# Altium footprint library CQFP_Sq_63P_Ctr_L.PcbLib: 5 footprints
Each footprint in its own frame and in the unit in brackets; x right, y up, seen from the top. Pads: shape width x height; smd on the part's side, far side on the other; paste and mask are expansions set on the pad; w line width, h text height; cw(c..) or ccw(c..) is an arc to the next point about the centre after c.
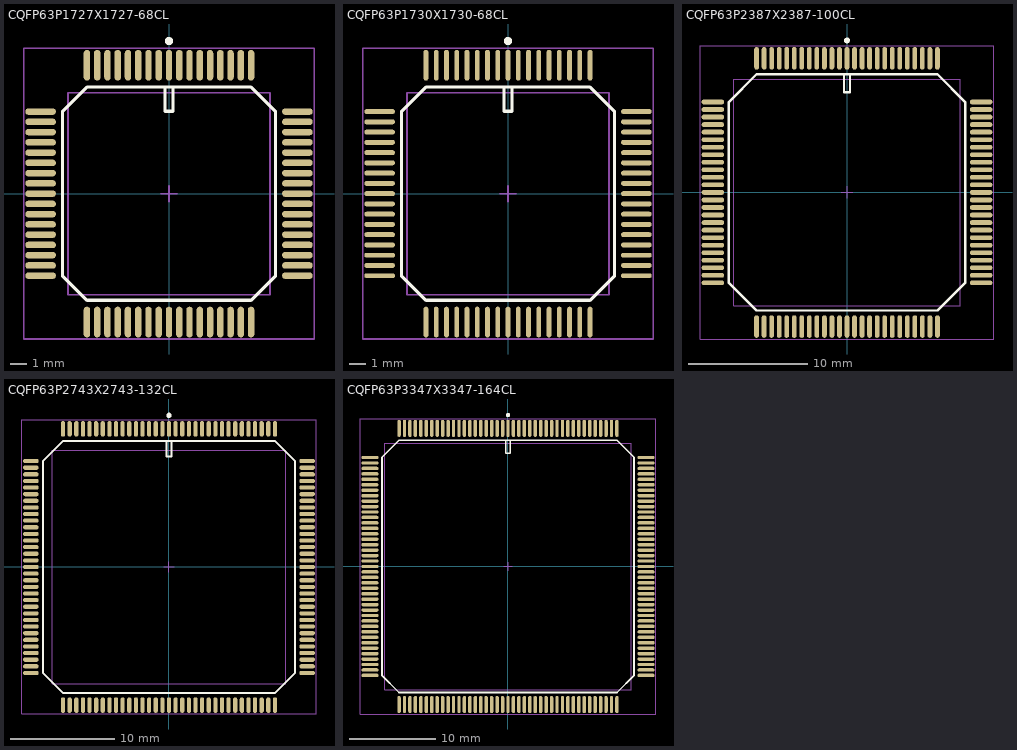
[diagram p0: the footprints below, top view; thin cyan lines are the x and y axes]

## CQFP63P1727X1727-68CL [mm] "68-Pin Ceramic Quad Flat Pack 0.635 mm Pitch"
height 3.9
pads (68):
  oval 0.4x1.9 smd: 1(0,7.95) 2(-0.635,7.95) 3(-1.27,7.95) 4(-1.905,7.95) 5(-2.54,7.95) 6(-3.175,7.95) 7(-3.81,7.95) 8(-4.445,7.95) 9(-5.08,7.95) 27(-5.08,-7.95) 28(-4.445,-7.95) 29(-3.81,-7.95) 30(-3.175,-7.95) 31(-2.54,-7.95) 32(-1.905,-7.95) 33(-1.27,-7.95) 34(-0.635,-7.95) 35(0,-7.95) 36(0.635,-7.95) 37(1.27,-7.95) 38(1.905,-7.95) 39(2.54,-7.95) 40(3.175,-7.95) 41(3.81,-7.95) 42(4.445,-7.95) 43(5.08,-7.95) 61(5.08,7.95) 62(4.445,7.95) 63(3.81,7.95) 64(3.175,7.95) 65(2.54,7.95) 66(1.905,7.95) 67(1.27,7.95) 68(0.635,7.95)
  oval 1.9x0.4 smd: 10(-7.95,5.08) 11(-7.95,4.445) 12(-7.95,3.81) 13(-7.95,3.175) 14(-7.95,2.54) 15(-7.95,1.905) 16(-7.95,1.27) 17(-7.95,0.635) 18(-7.95,0) 19(-7.95,-0.635) 20(-7.95,-1.27) 21(-7.95,-1.905) 22(-7.95,-2.54) 23(-7.95,-3.175) 24(-7.95,-3.81) 25(-7.95,-4.445) 26(-7.95,-5.08) 44(7.95,-5.08) 45(7.95,-4.445) 46(7.95,-3.81) 47(7.95,-3.175) 48(7.95,-2.54) 49(7.95,-1.905) 50(7.95,-1.27) 51(7.95,-0.635) 52(7.95,0) 53(7.95,0.635) 54(7.95,1.27) 55(7.95,1.905) 56(7.95,2.54) 57(7.95,3.175) 58(7.95,3.81) 59(7.95,4.445) 60(7.95,5.08)
Top Overlay:
  circle w0.25: c0,9.45 r0.125
  lines w0.2: -0.25,6.6 -0.25,5.1 0.25,5.1 0.25,6.6 ; -6.6,-5.08 -6.6,5.08 -5.08,6.6 5.08,6.6 6.6,5.08 6.6,-5.08 5.08,-6.6 -5.08,-6.6 -6.6,-5.08
Mechanical 13:
  lines w0.1: -6.255,-6.255 -6.255,6.255 6.255,6.255 6.255,-6.255 -6.255,-6.255
Mechanical 15:
  lines w0.1: -0.5,0 0.5,0 ; 0,-0.5 0,0.5 ; -9,-9 -9,9 9,9 9,-9 -9,-9
3D body: height 3.9, standoff 0, extent -6.255,-6.255 6.255,6.255

## CQFP63P1730X1730-68CL [mm] "68-Pin Ceramic Quad Flat Pack 0.635 mm Pitch"
height 4
pads (68):
  oval 0.3x1.9 smd: 1(0,7.95) 2(-0.635,7.95) 3(-1.27,7.95) 4(-1.905,7.95) 5(-2.54,7.95) 6(-3.175,7.95) 7(-3.81,7.95) 8(-4.445,7.95) 9(-5.08,7.95) 27(-5.08,-7.95) 28(-4.445,-7.95) 29(-3.81,-7.95) 30(-3.175,-7.95) 31(-2.54,-7.95) 32(-1.905,-7.95) 33(-1.27,-7.95) 34(-0.635,-7.95) 35(0,-7.95) 36(0.635,-7.95) 37(1.27,-7.95) 38(1.905,-7.95) 39(2.54,-7.95) 40(3.175,-7.95) 41(3.81,-7.95) 42(4.445,-7.95) 43(5.08,-7.95) 61(5.08,7.95) 62(4.445,7.95) 63(3.81,7.95) 64(3.175,7.95) 65(2.54,7.95) 66(1.905,7.95) 67(1.27,7.95) 68(0.635,7.95)
  oval 1.9x0.3 smd: 10(-7.95,5.08) 11(-7.95,4.445) 12(-7.95,3.81) 13(-7.95,3.175) 14(-7.95,2.54) 15(-7.95,1.905) 16(-7.95,1.27) 17(-7.95,0.635) 18(-7.95,0) 19(-7.95,-0.635) 20(-7.95,-1.27) 21(-7.95,-1.905) 22(-7.95,-2.54) 23(-7.95,-3.175) 24(-7.95,-3.81) 25(-7.95,-4.445) 26(-7.95,-5.08) 44(7.95,-5.08) 45(7.95,-4.445) 46(7.95,-3.81) 47(7.95,-3.175) 48(7.95,-2.54) 49(7.95,-1.905) 50(7.95,-1.27) 51(7.95,-0.635) 52(7.95,0) 53(7.95,0.635) 54(7.95,1.27) 55(7.95,1.905) 56(7.95,2.54) 57(7.95,3.175) 58(7.95,3.81) 59(7.95,4.445) 60(7.95,5.08)
Top Overlay:
  circle w0.25: c0,9.45 r0.125
  lines w0.2: -0.25,6.6 -0.25,5.1 0.25,5.1 0.25,6.6 ; -6.6,-5.08 -6.6,5.08 -5.08,6.6 5.08,6.6 6.6,5.08 6.6,-5.08 5.08,-6.6 -5.08,-6.6 -6.6,-5.08
Mechanical 13:
  lines w0.1: -6.255,-6.255 -6.255,6.255 6.255,6.255 6.255,-6.255 -6.255,-6.255
Mechanical 15:
  lines w0.1: -0.5,0 0.5,0 ; 0,-0.5 0,0.5 ; -9,-9 -9,9 9,9 9,-9 -9,-9
3D body: height 4, standoff 0, extent -6.255,-6.255 6.255,6.255

## CQFP63P2387X2387-100CL [mm] "100-Pin Ceramic Brazed Quad Flat Pack (CB100)"
height 3.5
pads (100):
  oval 0.4x1.9 smd: 1(0,11.3) 2(-0.635,11.3) 3(-1.27,11.3) 4(-1.905,11.3) 5(-2.54,11.3) 6(-3.175,11.3) 7(-3.81,11.3) 8(-4.445,11.3) 9(-5.08,11.3) 10(-5.715,11.3) 11(-6.35,11.3) 12(-6.985,11.3) 13(-7.62,11.3) 39(-7.62,-11.3) 40(-6.985,-11.3) 41(-6.35,-11.3) 42(-5.715,-11.3) 43(-5.08,-11.3) 44(-4.445,-11.3) 45(-3.81,-11.3) 46(-3.175,-11.3) 47(-2.54,-11.3) 48(-1.905,-11.3) 49(-1.27,-11.3) 50(-0.635,-11.3) 51(0,-11.3) 52(0.635,-11.3) 53(1.27,-11.3) 54(1.905,-11.3) 55(2.54,-11.3) 56(3.175,-11.3) 57(3.81,-11.3) 58(4.445,-11.3) 59(5.08,-11.3) 60(5.715,-11.3) 61(6.35,-11.3) 62(6.985,-11.3) 63(7.62,-11.3) 89(7.62,11.3) 90(6.985,11.3) 91(6.35,11.3) 92(5.715,11.3) 93(5.08,11.3) 94(4.445,11.3) 95(3.81,11.3) 96(3.175,11.3) 97(2.54,11.3) 98(1.905,11.3) 99(1.27,11.3) 100(0.635,11.3)
  oval 1.9x0.4 smd: 14(-11.3,7.62) 15(-11.3,6.985) 16(-11.3,6.35) 17(-11.3,5.715) 18(-11.3,5.08) 19(-11.3,4.445) 20(-11.3,3.81) 21(-11.3,3.175) 22(-11.3,2.54) 23(-11.3,1.905) 24(-11.3,1.27) 25(-11.3,0.635) 26(-11.3,0) 27(-11.3,-0.635) 28(-11.3,-1.27) 29(-11.3,-1.905) 30(-11.3,-2.54) 31(-11.3,-3.175) 32(-11.3,-3.81) 33(-11.3,-4.445) 34(-11.3,-5.08) 35(-11.3,-5.715) 36(-11.3,-6.35) 37(-11.3,-6.985) 38(-11.3,-7.62) 64(11.3,-7.62) 65(11.3,-6.985) 66(11.3,-6.35) 67(11.3,-5.715) 68(11.3,-5.08) 69(11.3,-4.445) 70(11.3,-3.81) 71(11.3,-3.175) 72(11.3,-2.54) 73(11.3,-1.905) 74(11.3,-1.27) 75(11.3,-0.635) 76(11.3,0) 77(11.3,0.635) 78(11.3,1.27) 79(11.3,1.905) 80(11.3,2.54) 81(11.3,3.175) 82(11.3,3.81) 83(11.3,4.445) 84(11.3,5.08) 85(11.3,5.715) 86(11.3,6.35) 87(11.3,6.985) 88(11.3,7.62)
Top Overlay:
  circle w0.25: c0,12.8 r0.125
  lines w0.2: -0.25,9.95 -0.25,8.45 0.25,8.45 0.25,9.95 ; -9.95,-7.62 -9.95,7.62 -7.62,9.95 7.62,9.95 9.95,7.62 9.95,-7.62 7.62,-9.95 -7.62,-9.95 -9.95,-7.62
Mechanical 13:
  lines w0.1: -9.555,-9.555 -9.555,9.555 9.555,9.555 9.555,-9.555 -9.555,-9.555
Mechanical 15:
  lines w0.1: -0.5,0 0.5,0 ; 0,-0.5 0,0.5 ; -12.35,-12.35 -12.35,12.35 12.35,12.35 12.35,-12.35 -12.35,-12.35
3D body: height 3.5, standoff 0, extent -9.555,-9.555 9.555,9.555

## CQFP63P2743X2743-132CL [mm] "CQFP, 132-Leads, Body 22.4x22.4mm; Pitch 0.635mm, Gullwing Leadform, IPC High Density"
height 4.4
pads (132):
  oval 0.4x1.5 smd: 1(0,13.25) 2(-0.635,13.25) 3(-1.27,13.25) 4(-1.905,13.25) 5(-2.54,13.25) 6(-3.175,13.25) 7(-3.81,13.25) 8(-4.445,13.25) 9(-5.08,13.25) 10(-5.715,13.25) 11(-6.35,13.25) 12(-6.985,13.25) 13(-7.62,13.25) 14(-8.255,13.25) 15(-8.89,13.25) 16(-9.525,13.25) 17(-10.16,13.25) 51(-10.16,-13.25) 52(-9.525,-13.25) 53(-8.89,-13.25) 54(-8.255,-13.25) 55(-7.62,-13.25) 56(-6.985,-13.25) 57(-6.35,-13.25) 58(-5.715,-13.25) 59(-5.08,-13.25) 60(-4.445,-13.25) 61(-3.81,-13.25) 62(-3.175,-13.25) 63(-2.54,-13.25) 64(-1.905,-13.25) 65(-1.27,-13.25) 66(-0.635,-13.25) 67(0,-13.25) 68(0.635,-13.25) 69(1.27,-13.25) 70(1.905,-13.25) 71(2.54,-13.25) 72(3.175,-13.25) 73(3.81,-13.25) 74(4.445,-13.25) 75(5.08,-13.25) 76(5.715,-13.25) 77(6.35,-13.25) 78(6.985,-13.25) 79(7.62,-13.25) 80(8.255,-13.25) 81(8.89,-13.25) 82(9.525,-13.25) 83(10.16,-13.25) 117(10.16,13.25) 118(9.525,13.25) 119(8.89,13.25) 120(8.255,13.25) 121(7.62,13.25) 122(6.985,13.25) 123(6.35,13.25) 124(5.715,13.25) 125(5.08,13.25) 126(4.445,13.25) 127(3.81,13.25) 128(3.175,13.25) 129(2.54,13.25) 130(1.905,13.25) 131(1.27,13.25) 132(0.635,13.25)
  oval 1.5x0.4 smd: 18(-13.25,10.16) 19(-13.25,9.525) 20(-13.25,8.89) 21(-13.25,8.255) 22(-13.25,7.62) 23(-13.25,6.985) 24(-13.25,6.35) 25(-13.25,5.715) 26(-13.25,5.08) 27(-13.25,4.445) 28(-13.25,3.81) 29(-13.25,3.175) 30(-13.25,2.54) 31(-13.25,1.905) 32(-13.25,1.27) 33(-13.25,0.635) 34(-13.25,0) 35(-13.25,-0.635) 36(-13.25,-1.27) 37(-13.25,-1.905) 38(-13.25,-2.54) 39(-13.25,-3.175) 40(-13.25,-3.81) 41(-13.25,-4.445) 42(-13.25,-5.08) 43(-13.25,-5.715) 44(-13.25,-6.35) 45(-13.25,-6.985) 46(-13.25,-7.62) 47(-13.25,-8.255) 48(-13.25,-8.89) 49(-13.25,-9.525) 50(-13.25,-10.16) 84(13.25,-10.16) 85(13.25,-9.525) 86(13.25,-8.89) 87(13.25,-8.255) 88(13.25,-7.62) 89(13.25,-6.985) 90(13.25,-6.35) 91(13.25,-5.715) 92(13.25,-5.08) 93(13.25,-4.445) 94(13.25,-3.81) 95(13.25,-3.175) 96(13.25,-2.54) 97(13.25,-1.905) 98(13.25,-1.27) 99(13.25,-0.635) 100(13.25,0) 101(13.25,0.635) 102(13.25,1.27) 103(13.25,1.905) 104(13.25,2.54) 105(13.25,3.175) 106(13.25,3.81) 107(13.25,4.445) 108(13.25,5.08) 109(13.25,5.715) 110(13.25,6.35) 111(13.25,6.985) 112(13.25,7.62) 113(13.25,8.255) 114(13.25,8.89) 115(13.25,9.525) 116(13.25,10.16)
Top Overlay:
  circle w0.25: c0,14.55 r0.125
  lines w0.2: -0.25,12.1 -0.25,10.6 0.25,10.6 0.25,12.1 ; -12.1,-10.16 -10.16,-12.1 10.16,-12.1 12.1,-10.16 12.1,10.16 10.16,12.1 -10.16,12.1 -12.1,10.16 -12.1,-10.16
Mechanical 13:
  lines w0.1: -11.18,-11.18 11.18,-11.18 11.18,11.18 -11.18,11.18 -11.18,-11.18
Mechanical 15:
  lines w0.1: -0.5,0 0.5,0 ; 0,-0.5 0,0.5 ; -14.1,-14.1 14.1,-14.1 14.1,14.1 -14.1,14.1 -14.1,-14.1
3D body: height 4.4, standoff 0, extent -11.18,-11.18 11.18,11.18

## CQFP63P3347X3347-164CL [mm] "164-Pin Ceramic Brazed Quad Flat Pack (CB164)"
height 3.4
pads (164):
  oval 0.4x2 smd: 1(0,16.1) 2(-0.635,16.1) 3(-1.27,16.1) 4(-1.905,16.1) 5(-2.54,16.1) 6(-3.175,16.1) 7(-3.81,16.1) 8(-4.445,16.1) 9(-5.08,16.1) 10(-5.715,16.1) 11(-6.35,16.1) 12(-6.985,16.1) 13(-7.62,16.1) 14(-8.255,16.1) 15(-8.89,16.1) 16(-9.525,16.1) 17(-10.16,16.1) 18(-10.795,16.1) 19(-11.43,16.1) 20(-12.065,16.1) 21(-12.7,16.1) 63(-12.7,-16.1) 64(-12.065,-16.1) 65(-11.43,-16.1) 66(-10.795,-16.1) 67(-10.16,-16.1) 68(-9.525,-16.1) 69(-8.89,-16.1) 70(-8.255,-16.1) 71(-7.62,-16.1) 72(-6.985,-16.1) 73(-6.35,-16.1) 74(-5.715,-16.1) 75(-5.08,-16.1) 76(-4.445,-16.1) 77(-3.81,-16.1) 78(-3.175,-16.1) 79(-2.54,-16.1) 80(-1.905,-16.1) 81(-1.27,-16.1) 82(-0.635,-16.1) 83(0,-16.1) 84(0.635,-16.1) 85(1.27,-16.1) 86(1.905,-16.1) 87(2.54,-16.1) 88(3.175,-16.1) 89(3.81,-16.1) 90(4.445,-16.1) 91(5.08,-16.1) 92(5.715,-16.1) 93(6.35,-16.1) 94(6.985,-16.1) 95(7.62,-16.1) 96(8.255,-16.1) 97(8.89,-16.1) 98(9.525,-16.1) 99(10.16,-16.1) 100(10.795,-16.1) 101(11.43,-16.1) 102(12.065,-16.1) 103(12.7,-16.1) 145(12.7,16.1) 146(12.065,16.1) 147(11.43,16.1) 148(10.795,16.1) 149(10.16,16.1) 150(9.525,16.1) 151(8.89,16.1) 152(8.255,16.1) 153(7.62,16.1) 154(6.985,16.1) 155(6.35,16.1) 156(5.715,16.1) 157(5.08,16.1) 158(4.445,16.1) 159(3.81,16.1) 160(3.175,16.1) 161(2.54,16.1) 162(1.905,16.1) 163(1.27,16.1) 164(0.635,16.1)
  oval 2x0.4 smd: 22(-16.1,12.7) 23(-16.1,12.065) 24(-16.1,11.43) 25(-16.1,10.795) 26(-16.1,10.16) 27(-16.1,9.525) 28(-16.1,8.89) 29(-16.1,8.255) 30(-16.1,7.62) 31(-16.1,6.985) 32(-16.1,6.35) 33(-16.1,5.715) 34(-16.1,5.08) 35(-16.1,4.445) 36(-16.1,3.81) 37(-16.1,3.175) 38(-16.1,2.54) 39(-16.1,1.905) 40(-16.1,1.27) 41(-16.1,0.635) 42(-16.1,0) 43(-16.1,-0.635) 44(-16.1,-1.27) 45(-16.1,-1.905) 46(-16.1,-2.54) 47(-16.1,-3.175) 48(-16.1,-3.81) 49(-16.1,-4.445) 50(-16.1,-5.08) 51(-16.1,-5.715) 52(-16.1,-6.35) 53(-16.1,-6.985) 54(-16.1,-7.62) 55(-16.1,-8.255) 56(-16.1,-8.89) 57(-16.1,-9.525) 58(-16.1,-10.16) 59(-16.1,-10.795) 60(-16.1,-11.43) 61(-16.1,-12.065) 62(-16.1,-12.7) 104(16.1,-12.7) 105(16.1,-12.065) 106(16.1,-11.43) 107(16.1,-10.795) 108(16.1,-10.16) 109(16.1,-9.525) 110(16.1,-8.89) 111(16.1,-8.255) 112(16.1,-7.62) 113(16.1,-6.985) 114(16.1,-6.35) 115(16.1,-5.715) 116(16.1,-5.08) 117(16.1,-4.445) 118(16.1,-3.81) 119(16.1,-3.175) 120(16.1,-2.54) 121(16.1,-1.905) 122(16.1,-1.27) 123(16.1,-0.635) 124(16.1,0) 125(16.1,0.635) 126(16.1,1.27) 127(16.1,1.905) 128(16.1,2.54) 129(16.1,3.175) 130(16.1,3.81) 131(16.1,4.445) 132(16.1,5.08) 133(16.1,5.715) 134(16.1,6.35) 135(16.1,6.985) 136(16.1,7.62) 137(16.1,8.255) 138(16.1,8.89) 139(16.1,9.525) 140(16.1,10.16) 141(16.1,10.795) 142(16.1,11.43) 143(16.1,12.065) 144(16.1,12.7)
Top Overlay:
  circle w0.25: c0,17.65 r0.125
  lines w0.2: -0.25,14.7 -0.25,13.2 0.25,13.2 0.25,14.7 ; -14.7,-12.7 -12.7,-14.7 12.7,-14.7 14.7,-12.7 14.7,12.7 12.7,14.7 -12.7,14.7 -14.7,12.7 -14.7,-12.7
Mechanical 13:
  lines w0.1: -14.385,-14.385 14.385,-14.385 14.385,14.385 -14.385,14.385 -14.385,-14.385
Mechanical 15:
  lines w0.1: -0.5,0 0.5,0 ; 0,-0.5 0,0.5 ; -17.2,-17.2 17.2,-17.2 17.2,17.2 -17.2,17.2 -17.2,-17.2
3D body: height 3.4, standoff 0, extent -14.385,-14.385 14.385,14.385